# EAGLE library part SN74LVC8T245PW (library lib_stankus)
SN74LVC8T245PW transceiver Farnell #1236407
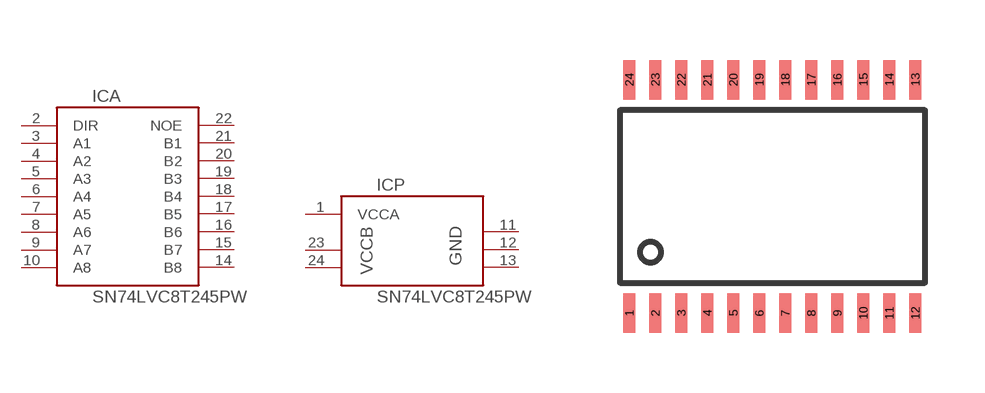
[diagram p7: symbol with the pads of TSSOP24; footprint TSSOP24]

Designator prefix IC; gates A=SN74LVC8T245PW_IO P=SN74LVC8T245PW_PWR

## SN74LVC8T245PW-TSSOP24  [TSSOP24]
1  P:VCCA  pas
2  A:DIR  pas
3  A:A1  pas
4  A:A2  pas
5  A:A3  pas
6  A:A4  pas
7  A:A5  pas
8  A:A6  pas
9  A:A7  pas
10  A:A8  pas
11  P:GND  pas
12  P:GND  pas
13  P:GND  pas
14  A:B8  pas
15  A:B7  pas
16  A:B6  pas
17  A:B5  pas
18  A:B4  pas
19  A:B3  pas
20  A:B2  pas
21  A:B1  pas
22  A:NOE  pas
23  P:VCCB  pas
24  P:VCCB  pas

## Footprint TSSOP24 (pad centres in mm)
TSSOP24
smd 0.305 x 0.991: 1 -3.575,-2.921; 2 -2.925,-2.921; 3 -2.275,-2.921; 4 -1.625,-2.921; 5 -0.975,-2.921; 6 -0.325,-2.921; 7 0.325,-2.921; 8 0.975,-2.921; 9 1.625,-2.921; 10 2.275,-2.921; 11 2.925,-2.921; 12 3.575,-2.921; 13 3.575,2.921; 14 2.925,2.921; 15 2.275,2.921; 16 1.625,2.921; 17 0.975,2.921; 18 0.325,2.921; 19 -0.325,2.921; 20 -0.975,2.921; 21 -1.625,2.921; 22 -2.275,2.921; 23 -2.925,2.921; 24 -3.575,2.921